# EAGLE library part 10PIN_HEADER (library 1_spektrak)
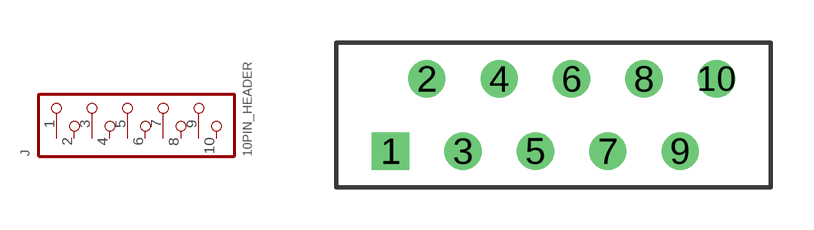
[diagram p18: symbol with the pads of 10PIN_HEADER; footprint 10PIN_HEADER]

Designator prefix J

## 10PIN_HEADER  [10PIN_HEADER]
1  1
2  2
3  3
4  4
5  5
6  6
7  7
8  8
9  9
10  10

## Footprint 10PIN_HEADER (pad centres in mm)
drill 0.8 square: 1 -5.08,-1.27
drill 0.8: 2 -3.81,1.27; 3 -2.54,-1.27; 4 -1.27,1.27; 5 0,-1.27; 6 1.27,1.27; 7 2.54,-1.27; 8 3.81,1.27; 9 5.08,-1.27; 10 6.35,1.27